# EAGLE library part PIC32_TRACE (library TRISThis)
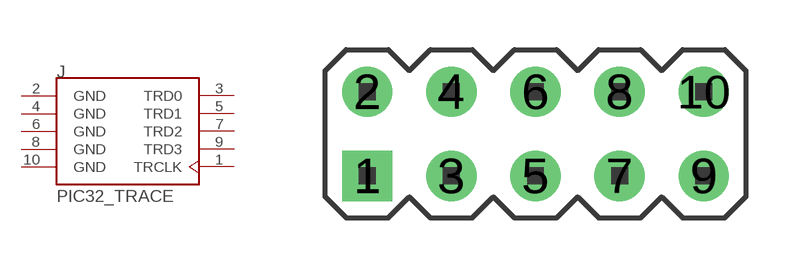
[diagram p6: symbol with the pads of 2X05; footprint 2X05]

Designator prefix J

## PIC32_TRACE  [2X05]
1  TRCLK
2  GND  pwr
3  TRD0
4  GND  pwr
5  TRD1
6  GND  pwr
7  TRD2
8  GND  pwr
9  TRD3
10  GND  pwr

## Footprint 2X05 (pad centres in mm)
drill 1.016 square: 1 -5.08,-1.27
drill 1.016 round: 2 -5.08,1.27; 3 -2.54,-1.27; 4 -2.54,1.27; 5 0,-1.27; 6 0,1.27; 7 2.54,-1.27; 8 2.54,1.27; 9 5.08,-1.27; 10 5.08,1.27